# EAGLE library part HMC253AQS24E (library custom_dzmitry)
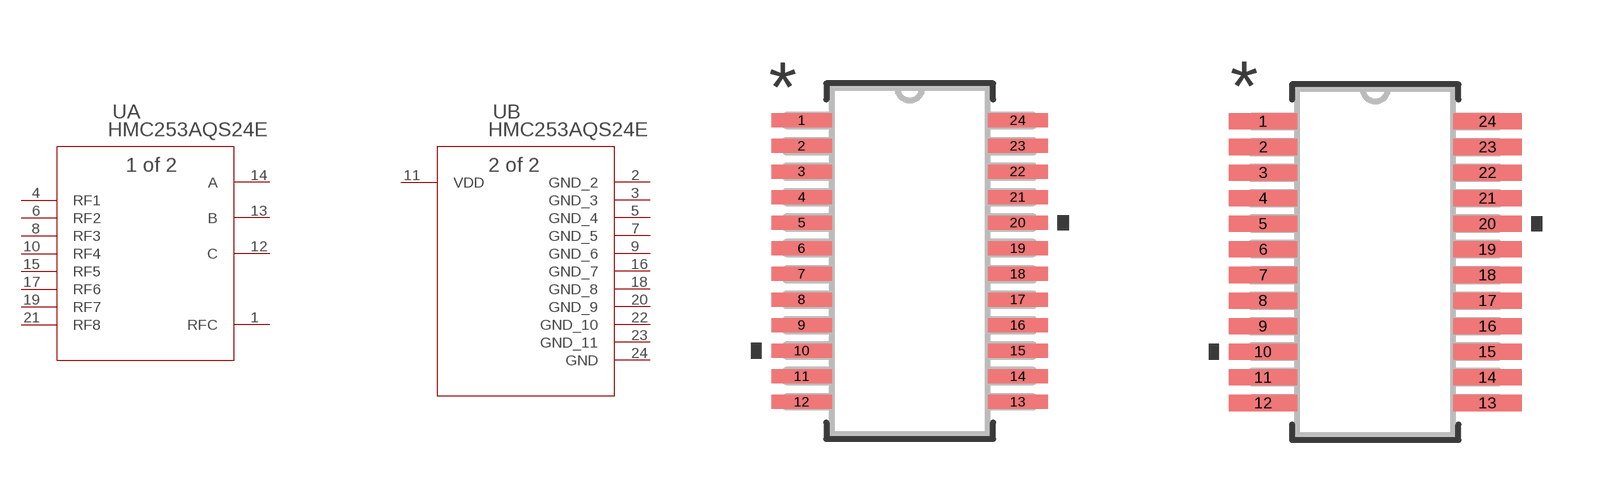
[diagram p3: symbol with the pads of HRQ_24_1_ADI; footprints HRQ_24_1_ADI, HRQ_24_1_ADI-M]

Designator prefix U; gates A=HMC253AQS24E B=HMC253AQS24E_A

## HMC253AQS24E (BUILT_BY: Analog Devices Inc.; MANUFACTURER_PART_NUMBER: HMC253AQS24E; SOURCELIBRARY: Analog_2018-03-03; VENDOR: Analog Devices Inc)  [HRQ_24_1_ADI]
1  A:RFC  pas
2  B:GND_2  pas
3  B:GND_3  pas
4  A:RF1  pas
5  B:GND_4  pas
6  A:RF2  pas
7  B:GND_5  pas
8  A:RF3  pas
9  B:GND_6  pas
10  A:RF4  pas
11  B:VDD  pas
12  A:C  pas
13  A:B  pas
14  A:A  pas
15  A:RF5  pas
16  B:GND_7  pas
17  A:RF6  pas
18  B:GND_8  pas
19  A:RF7  pas
20  B:GND_9  pas
21  A:RF8  pas
22  B:GND_10  pas
23  B:GND_11  pas
24  B:GND  pas

## HMC253AQS24EHRQ_24_1_ADI-M (BUILT_BY: Analog Devices Inc.; MANUFACTURER_PART_NUMBER: HMC253AQS24E; SOURCELIBRARY: Analog_2018-03-03; VENDOR: Analog Devices Inc)  [HRQ_24_1_ADI-M]
Pads as for HRQ_24_1_ADI

## HMC253AQS24EHRQ_24_1_ADI-L (BUILT_BY: Analog Devices Inc.; MANUFACTURER_PART_NUMBER: HMC253AQS24E; SOURCELIBRARY: Analog_2018-03-03; VENDOR: Analog Devices Inc)  [HRQ_24_1_ADI-L]
Pads as for HRQ_24_1_ADI

## Footprint HRQ_24_1_ADI (pad centres in mm)
smd 1.506 x 0.351: 1 -2.703,3.52; 2 -2.703,2.88; 3 -2.703,2.24; 4 -2.703,1.6; 5 -2.703,0.96; 6 -2.703,0.32; 7 -2.703,-0.32; 8 -2.703,-0.96; 9 -2.703,-1.6; 10 -2.703,-2.24; 11 -2.703,-2.88; 12 -2.703,-3.52; 13 2.703,-3.52; 14 2.703,-2.88; 15 2.703,-2.24; 16 2.703,-1.6; 17 2.703,-0.96; 18 2.703,-0.32; 19 2.703,0.32; 20 2.703,0.96; 21 2.703,1.6; 22 2.703,2.24; 23 2.703,2.88; 24 2.703,3.52

## Footprint HRQ_24_1_ADI-M (pad centres in mm)
smd 1.709 x 0.402: 1 -2.804,3.52; 2 -2.804,2.88; 3 -2.804,2.24; 4 -2.804,1.6; 5 -2.804,0.96; 6 -2.804,0.32; 7 -2.804,-0.32; 8 -2.804,-0.96; 9 -2.804,-1.6; 10 -2.804,-2.24; 11 -2.804,-2.88; 12 -2.804,-3.52; 13 2.804,-3.52; 14 2.804,-2.88; 15 2.804,-2.24; 16 2.804,-1.6; 17 2.804,-0.96; 18 2.804,-0.32; 19 2.804,0.32; 20 2.804,0.96; 21 2.804,1.6; 22 2.804,2.24; 23 2.804,2.88; 24 2.804,3.52

## Footprint HRQ_24_1_ADI-L (pad centres in mm)
smd 1.302 x 0.3: 1 -2.601,3.52; 2 -2.601,2.88; 3 -2.601,2.24; 4 -2.601,1.6; 5 -2.601,0.96; 6 -2.601,0.32; 7 -2.601,-0.32; 8 -2.601,-0.96; 9 -2.601,-1.6; 10 -2.601,-2.24; 11 -2.601,-2.88; 12 -2.601,-3.52; 13 2.601,-3.52; 14 2.601,-2.88; 15 2.601,-2.24; 16 2.601,-1.6; 17 2.601,-0.96; 18 2.601,-0.32; 19 2.601,0.32; 20 2.601,0.96; 21 2.601,1.6; 22 2.601,2.24; 23 2.601,2.88; 24 2.601,3.52